# Altium schematic symbol library Flight_Controller.SCHLIB: 10 symbols
Pins are listed as number, name and electrical type; pins without a type are passive.

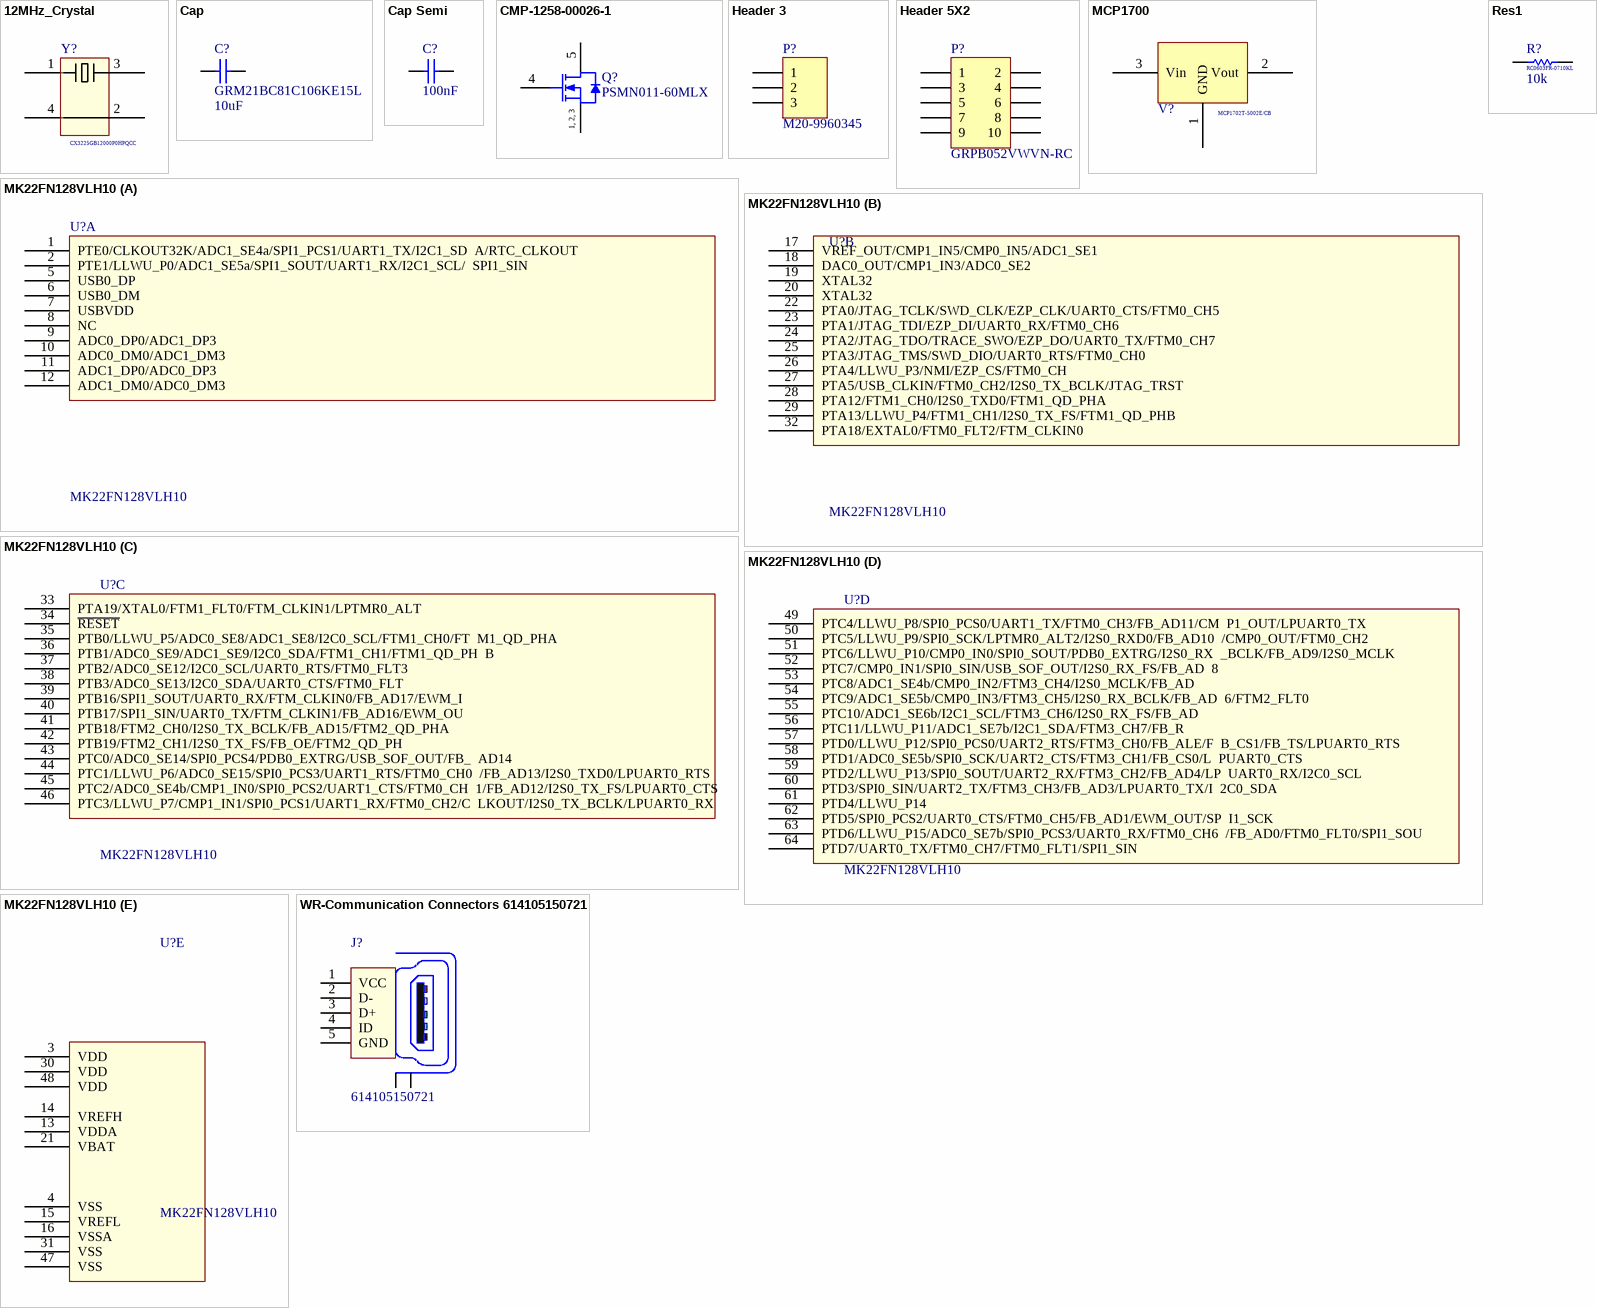
[diagram p0: symbols 12MHz_Crystal to WR-Communication Connectors 614105150721]

## 12MHz_Crystal
designator Y?, comment CX3225GB12000P0HPQCC
12MHz Micro Crystal; PP1: 0.64000; PP100: 0.47000; Value: 12MHz; Page: Micro
footprint 3225_Crystal (12 MHz Micro Crystal)
pins: 1 X1, 2 GND, 3 X2, 4 GND

## Cap
designator C?, comment GRM21BC81C106KE15L  value 10uF
Capacitor; Published: 8-Jun-2000; LatestRevisionDate: 17-Jul-2002; LatestRevisionNote: Re-released for DXP Platform.; PackageReference: RAD-0.3; Publisher: Altium Limited; PackageDescription: Radial Cap, Thru-Hole; 2 Leads; 0.3 in Pin Spacing
footprint RAD-0.3 (Radial Cap, Thru-Hole; 2 Leads; 0.3 in Pin Spacing)
simulation model CAP (Capacitor)
signal-integrity model Cap
footprint RAD-0.1 (Radial Cap, Thru-Hole; 2 Leads; 0.1 in Pin Spacing)
footprint C0805 (Chip Capacitor, Body 2.0x1.3mm, IPC High Density)
footprint 6-0805_MC
pins: 1, 2

## Cap Semi
designator C?, comment value 100nF  (hidden comment: GRM188R71H104KA93D)
Capacitor (Semiconductor SIM Model); Published: 8-Jun-2000; LatestRevisionDate: 29-May-2009; LatestRevisionNote: IPC-7351 Footprint Added.; PackageReference: C1206; Publisher: Altium Limited; PackageDescription: Chip Capacitor; Digikey: 311-1361-1-ND
footprint C1206 (Chip Capacitor, Body 3.2x1.6mm, IPC High Density)
footprint C0805 (Chip Capacitor, Body 2.0x1.3mm, IPC High Density)
footprint C2512 (Chip Capacitor, Body 2.54x1.27mm, IPC High Density)
footprint 1608[0603] (Chip Capacitor, Body 1.6x0.8mm, IPC High Density)
footprint C1210 (Chip Capacitor, Body 3.2x2.5mm, IPC High Density)
simulation model CAP (Semiconductor Capacitor)
signal-integrity model Cap Semi
footprint 1608[0603]C
pins: 1, 2

## CMP-1258-00026-1
designator Q?, comment PSMN011-60MLX
N-Channel Logic Level MOSFET, 60 V, 61 A, 5-Pin SOT1210, Reel; Manufacturer: NXP Semiconductors; VDS [max] (V): 60; VGSth [typ] (V): 1.7; Coss [typ] (pF): 199; Channel Type: N; Qr [typ] (nC): 15.7; Ciss [typ] (pF): 2191; ID [max] (A): 61; ComponentLink2URL: http://www.nxp.com/documents/data_sheet/PSMN011-60ML.pdf; ComponentLink1Description: Manufacturer URL; PartNumber: PSMN011-60MLX; PackageDescription: 8-Pin Plastic Single-ended Surface Mounted Package, Body 3.3 x 2.6 mm, Pitch 0.65 mm; PackageReference: SOT1210; ComponentLink1URL: http://www.nxp.com/; PackageVersion: 14-04-25, 04/2014; ComponentLink3Description: Package Specification; ComponentLink3URL: http://www.nxp.com/documents/outline_drawing/sot1210_po.pdf; Packing: Reel; Mounting Technology: Surface Mount; ComponentLink2Description: Datasheet
footprint NXP-SOT1210_L (DPAK, 5-Leads, Body 3.4x2.7mm, Pitch 0.65mm, IPC High Density)
footprint NXP-SOT1210_N (DPAK, 5-Leads, Body 3.4x2.7mm, Pitch 0.65mm, IPC Medium Density)
footprint NXP-SOT1210_M (DPAK, 5-Leads, Body 3.4x2.7mm, Pitch 0.65mm, IPC Low Density)
footprint SOT1210_FET
pins: 1 S "source", 2 S "source", 3 S "source", 4 G "gate", 5 D "mounting base; connected to drain"
text: 1, 2, 3

## Header 3
designator P?, comment M20-9960345
Header, 3-Pin; LatestRevisionDate: 17-Jul-2002; LatestRevisionNote: Re-released for DXP Platform.; Publisher: Altium Limited
footprint HDR1X3 (Connector; Header; 3 Position)
signal-integrity model Connector
pins: 1, 2, 3

## Header 5X2
designator P?, comment GRPB052VWVN-RC
Header, 5-Pin, Dual row; LatestRevisionDate: 17-Jul-2002; LatestRevisionNote: Re-released for DXP Platform.; Publisher: Altium Limited
footprint HDR2X5 (Connector; Header; 5x2 Position)
signal-integrity model Connector
footprint MHDR2X5
pins: 1, 2, 3, 4, 5, 6, 7, 8, 9, 10

## MCP1700
designator V?, comment MCP1702T-5002E/CB
MCP1700 3.3V REG
footprint TO-220-AB (TO, Thru-Hole, Vertical, Heatsink Mounted; 3 In-Line Leads; Pitch 2.54 mm)
footprint SOT-23B_M (SOT23, 3-Leads, Body 2.9x1.3mm, Pitch 0.95mm, Lead Span 2.4mm, IPC Low Density)
pins: 1 GND, 2 Vout, 3 Vin

## MK22FN128VLH10
designator U?
MK22FN128VLH10 MCU
footprint LQFP64_10mm_0.5mm (Thin QFP, 64-Leads, Body 10x10mm, Pitch 0.5mm, IPC Low Density)
part A pins: 1 PTE0/CLKOUT32K/ADC1_SE4a/SPI1_PCS1/UART1_TX/I2C1_SD  A/RTC_CLKOUT, 2 PTE1/LLWU_P0/ADC1_SE5a/SPI1_SOUT/UART1_RX/I2C1_SCL/  SPI1_SIN, 5 USB0_DP, 6 USB0_DM, 7 USBVDD, 8 NC, 9 ADC0_DP0/ADC1_DP3, 10 ADC0_DM0/ADC1_DM3, 11 ADC1_DP0/ADC0_DP3, 12 ADC1_DM0/ADC0_DM3
part B pins: 17 VREF_OUT/CMP1_IN5/CMP0_IN5/ADC1_SE1, 18 DAC0_OUT/CMP1_IN3/ADC0_SE2, 19 XTAL32, 20 XTAL32, 22 PTA0/JTAG_TCLK/SWD_CLK/EZP_CLK/UART0_CTS/FTM0_CH5, 23 PTA1/JTAG_TDI/EZP_DI/UART0_RX/FTM0_CH6, 24 PTA2/JTAG_TDO/TRACE_SWO/EZP_DO/UART0_TX/FTM0_CH7, 25 PTA3/JTAG_TMS/SWD_DIO/UART0_RTS/FTM0_CH0, 26 PTA4/LLWU_P3/NMI/EZP_CS/FTM0_CH, 27 PTA5/USB_CLKIN/FTM0_CH2/I2S0_TX_BCLK/JTAG_TRST, 28 PTA12/FTM1_CH0/I2S0_TXD0/FTM1_QD_PHA, 29 PTA13/LLWU_P4/FTM1_CH1/I2S0_TX_FS/FTM1_QD_PHB, 32 PTA18/EXTAL0/FTM0_FLT2/FTM_CLKIN0
part C pins: 33 PTA19/XTAL0/FTM1_FLT0/FTM_CLKIN1/LPTMR0_ALT, 34 ~{RESET}, 35 PTB0/LLWU_P5/ADC0_SE8/ADC1_SE8/I2C0_SCL/FTM1_CH0/FT  M1_QD_PHA, 36 PTB1/ADC0_SE9/ADC1_SE9/I2C0_SDA/FTM1_CH1/FTM1_QD_PH  B, 37 PTB2/ADC0_SE12/I2C0_SCL/UART0_RTS/FTM0_FLT3, 38 PTB3/ADC0_SE13/I2C0_SDA/UART0_CTS/FTM0_FLT, 39 PTB16/SPI1_SOUT/UART0_RX/FTM_CLKIN0/FB_AD17/EWM_I, 40 PTB17/SPI1_SIN/UART0_TX/FTM_CLKIN1/FB_AD16/EWM_OU, 41 PTB18/FTM2_CH0/I2S0_TX_BCLK/FB_AD15/FTM2_QD_PHA, 42 PTB19/FTM2_CH1/I2S0_TX_FS/FB_OE/FTM2_QD_PH, 43 PTC0/ADC0_SE14/SPI0_PCS4/PDB0_EXTRG/USB_SOF_OUT/FB_  AD14, 44 PTC1/LLWU_P6/ADC0_SE15/SPI0_PCS3/UART1_RTS/FTM0_CH0  /FB_AD13/I2S0_TXD0/LPUART0_RTS, 45 PTC2/ADC0_SE4b/CMP1_IN0/SPI0_PCS2/UART1_CTS/FTM0_CH  1/FB_AD12/I2S0_TX_FS/LPUART0_CTS, 46 PTC3/LLWU_P7/CMP1_IN1/SPI0_PCS1/UART1_RX/FTM0_CH2/C  LKOUT/I2S0_TX_BCLK/LPUART0_RX
part D pins: 49 PTC4/LLWU_P8/SPI0_PCS0/UART1_TX/FTM0_CH3/FB_AD11/CM  P1_OUT/LPUART0_TX, 50 PTC5/LLWU_P9/SPI0_SCK/LPTMR0_ALT2/I2S0_RXD0/FB_AD10  /CMP0_OUT/FTM0_CH2, 51 PTC6/LLWU_P10/CMP0_IN0/SPI0_SOUT/PDB0_EXTRG/I2S0_RX  _BCLK/FB_AD9/I2S0_MCLK, 52 PTC7/CMP0_IN1/SPI0_SIN/USB_SOF_OUT/I2S0_RX_FS/FB_AD  8, 53 PTC8/ADC1_SE4b/CMP0_IN2/FTM3_CH4/I2S0_MCLK/FB_AD, 54 PTC9/ADC1_SE5b/CMP0_IN3/FTM3_CH5/I2S0_RX_BCLK/FB_AD  6/FTM2_FLT0, 55 PTC10/ADC1_SE6b/I2C1_SCL/FTM3_CH6/I2S0_RX_FS/FB_AD, 56 PTC11/LLWU_P11/ADC1_SE7b/I2C1_SDA/FTM3_CH7/FB_R, 57 PTD0/LLWU_P12/SPI0_PCS0/UART2_RTS/FTM3_CH0/FB_ALE/F  B_CS1/FB_TS/LPUART0_RTS, 58 PTD1/ADC0_SE5b/SPI0_SCK/UART2_CTS/FTM3_CH1/FB_CS0/L  PUART0_CTS, 59 PTD2/LLWU_P13/SPI0_SOUT/UART2_RX/FTM3_CH2/FB_AD4/LP  UART0_RX/I2C0_SCL, 60 PTD3/SPI0_SIN/UART2_TX/FTM3_CH3/FB_AD3/LPUART0_TX/I  2C0_SDA, 61 PTD4/LLWU_P14, 62 PTD5/SPI0_PCS2/UART0_CTS/FTM0_CH5/FB_AD1/EWM_OUT/SP  I1_SCK, 63 PTD6/LLWU_P15/ADC0_SE7b/SPI0_PCS3/UART0_RX/FTM0_CH6  /FB_AD0/FTM0_FLT0/SPI1_SOU, 64 PTD7/UART0_TX/FTM0_CH7/FTM0_FLT1/SPI1_SIN
part E pins: 3 VDD, 4 VSS, 13 VDDA, 14 VREFH, 15 VREFL, 16 VSSA, 21 VBAT, 30 VDD, 31 VSS, 47 VSS, 48 VDD

## Res1
designator R?, comment RC0603FR-0710KL  value 10k
Resistor; Published: 8-Jun-2000; LatestRevisionDate: 17-Jul-2002; LatestRevisionNote: Re-released for DXP Platform.; PackageReference: AXIAL-0.3; Publisher: Altium Limited; PackageDescription: Axial Device, Thru-Hole; 2 Leads; 0.3 in Pin Spacing
footprint AXIAL-0.3 (Axial Device, Thru-Hole; 2 Leads; 0.3 in Pin Spacing)
simulation model RESISTOR (Resistor)
signal-integrity model Res
footprint 6-0805_M (Chip Resistor, Body 2.0x1.2mm, IPC Low Density)
footprint 6-0805_L (Chip Resistor, Body 2.0x1.2mm, IPC High Density)
footprint 1608[0603] (Chip Capacitor, Body 1.6x0.8mm, IPC High Density)
footprint 1608[0603]R
pins: 1, 2

## WR-Communication Connectors 614105150721
designator J?, comment 614105150721
WR-COM_USB_Micro Type B_Vertical_THT; Manufacturer: Würth Elektronik eiSos GmbH; ComponentLink1 Description: Manufacturer; ComponentLink2 Description: Datasheet; NoPins: 5; ComponentLink1URL: http://www.we-online.de; ComponentLink2URL: http://katalog.we-online.de/em/datasheet/614105150721.pdf; Created by: Karrer Zheng; Created Date: 10/25/2014; partNo: 614105150721
footprint USB_Micro_Vertical (WR-COM_USB_Micro Type B_Vertical_THT Micro Type B Vertical THT)
pins: 1 VCC, 2 D-, 3 D+, 4 ID, 5 GND, Z1 Shield, Z2 Shield